# Altium footprint library Crystals.PcbLib: 22 footprints (part 1 of 2)
Each footprint in its own frame and in the unit in brackets; x right, y up, seen from the top. Pads: shape width x height; smd on the part's side, far side on the other; paste and mask are expansions set on the pad; w line width, h text height; cw(c..) or ccw(c..) is an arc to the next point about the centre after c.
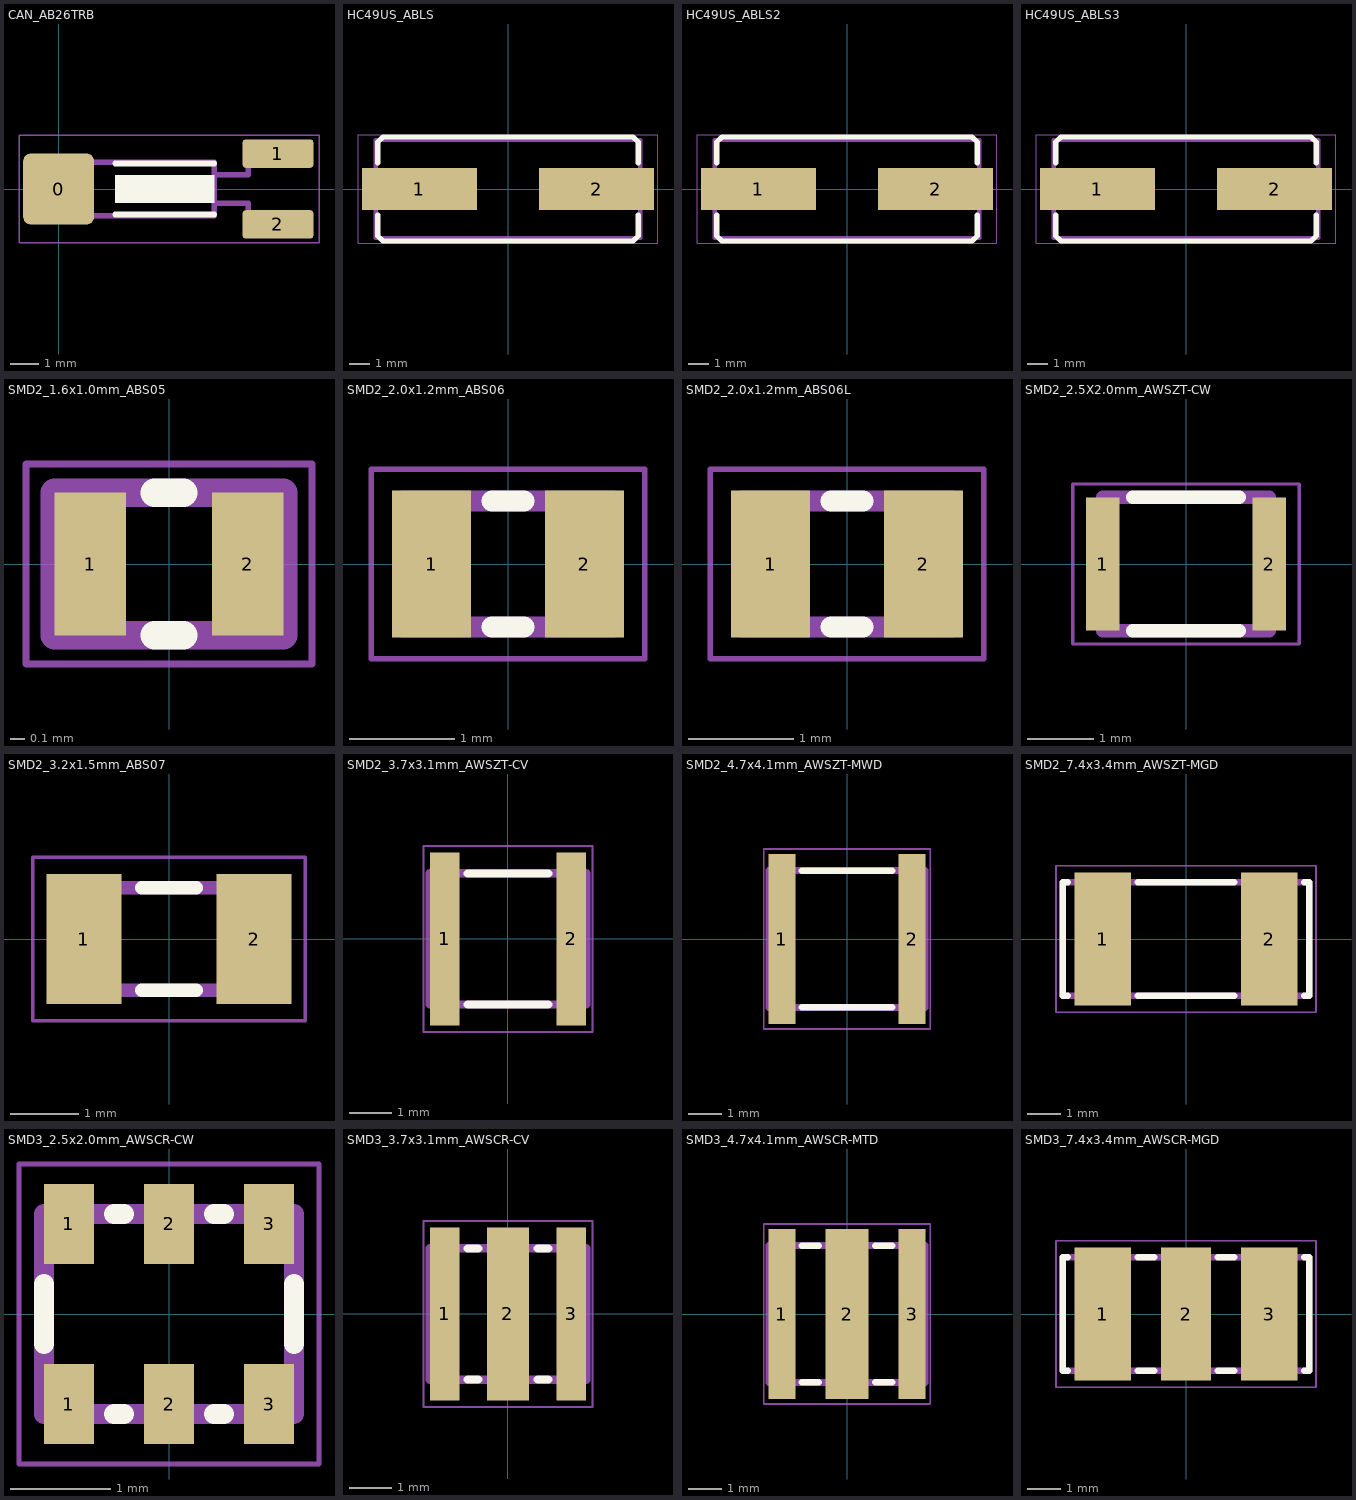
[diagram p0: the footprints below, top view; thin cyan lines are the x and y axes]

## CAN_AB26TRB [mm]
pads (3):
  rrect20% 2.5x2.5 smd: 0(0,0)
  rrect20% 2.5x1 smd: 1(7.75,1.25) 2(7.75,-1.25)
Top Overlay:
  rectangle: 2,-0.5 5.5,0.5
  lines w0.2: 2,-0.9 5.5,-0.9 ; 2,0.9 5.5,0.9
Mechanical 13:
  lines w0.2: 5.5,-0.5 6.7,-0.5 6.7,-1.2 8.3,-1.2 ; 5.5,0.5 6.7,0.5 6.7,1.2 8.3,1.2 ; -0.3,-0.95 -0.3,0.95 5.5,0.95 5.5,-0.95 -0.3,-0.95
Mechanical 15:
  lines w0.05: -1.4,-1.9 -1.4,1.9 9.2,1.9 9.2,-1.9 -1.4,-1.9
  text ".Designator" at -0.9,0 h0.5
3D body "AB26TRB.STEP": height 2.22, standoff 0, extent -0.4,-1.42 8.6,1.42

## HC49US_ABLS [mm]
pads (2):
  rect 5.5x2 smd: 1(-4.25,0) 2(4.25,0)
Top Overlay:
  lines w0.254: -6.25,-1.25 -6.25,-2.25 -6,-2.5 6,-2.5 6.25,-2.25 6.25,-1.25 ; -6.25,1.25 -6.25,2.25 -6,2.5 6,2.5 6.25,2.25 6.25,1.25
Mechanical 13:
  lines w0.2: -6.35,-2.35 -6.35,2.349 6.35,2.349 6.35,-2.35 -6.35,-2.35
Mechanical 15:
  lines w0.05: -7.2,-2.6 7.2,-2.6 7.2,2.6 -7.2,2.6 -7.2,-2.6
  text ".Designator" at -0.9,0 h0.5
3D body "ABLS.STEP": height 4.06, standoff -0.1, extent -6.35,-2.35 6.35,2.349

## HC49US_ABLS2 [mm]
pads (2):
  rect 5.5x2 smd: 1(-4.25,0) 2(4.25,0)
Top Overlay:
  lines w0.254: -6.25,-1.25 -6.25,-2.25 -6,-2.5 6,-2.5 6.25,-2.25 6.25,-1.25 ; -6.25,1.25 -6.25,2.25 -6,2.5 6,2.5 6.25,2.25 6.25,1.25
Mechanical 13:
  lines w0.2: -6.35,-2.35 -6.35,2.349 6.35,2.349 6.35,-2.35 -6.35,-2.35
Mechanical 15:
  lines w0.05: -7.2,-2.6 7.2,-2.6 7.2,2.6 -7.2,2.6 -7.2,-2.6
  text ".Designator" at -0.9,0 h0.5
3D body "ABLS2.STEP": height 3.16, standoff -0.1, extent -6.35,-2.35 6.35,2.349

## HC49US_ABLS3 [mm]
pads (2):
  rect 5.5x2 smd: 1(-4.25,0) 2(4.25,0)
Top Overlay:
  lines w0.254: -6.25,-1.25 -6.25,-2.25 -6,-2.5 6,-2.5 6.25,-2.25 6.25,-1.25 ; -6.25,1.25 -6.25,2.25 -6,2.5 6,2.5 6.25,2.25 6.25,1.25
Mechanical 13:
  lines w0.2: -6.35,-2.35 -6.35,2.349 6.35,2.349 6.35,-2.35 -6.35,-2.35
Mechanical 15:
  lines w0.05: -7.2,-2.6 -7.2,2.6 7.2,2.6 7.2,-2.6 -7.2,-2.6
  text ".Designator" at -0.9,0 h0.5
3D body "ABLS3.STEP": height 2.46, standoff -0.1, extent -6.35,-2.35 6.35,2.349

## SMD2_1.6x1.0mm_ABS05 [mm]
pads (2):
  rect 0.5x1 smd: 1(-0.55,0) 2(0.55,0)
Top Overlay:
  lines w0.2: -0.1,-0.5 0.1,-0.5 ; -0.1,0.5 0.1,0.5
Mechanical 13:
  lines w0.2: -0.8,-0.5 -0.8,0.5 0.8,0.5 0.8,-0.5 -0.8,-0.5
Mechanical 15:
  lines w0.05: -1,-0.7 -1,0.7 1,0.7 1,-0.7 -1,-0.7
  text ".Designator" at -0.9,0 h0.5
3D body "ABS05[1].STEP": height 0.5, standoff 0, extent -0.8,-0.5 0.8,0.5

## SMD2_2.0x1.2mm_ABS06 [mm]
pads (2):
  rect 0.75x1.4 smd: 1(-0.725,0) 2(0.725,0)
Top Overlay:
  lines w0.2: -0.15,-0.6 0.15,-0.6 ; -0.15,0.6 0.15,0.6
Mechanical 13:
  lines w0.2: -1.003,-0.6 -1,-0.6 ; -1,0.597 -1,-0.6 ; -1,0.6 1,0.6 1,-0.6 -1,-0.6 ; -0.975,-0.6 -1,-0.6
Mechanical 15:
  lines w0.05: -1.3,-0.9 -1.3,0.9 1.3,0.9 1.3,-0.9 -1.3,-0.9
  text ".Designator" at -0.9,0 h0.5
3D body "ABS06[1].STEP": height 0.61, standoff 0, extent -1.003,-0.597 1.003,0.597

## SMD2_2.0x1.2mm_ABS06L [mm]
pads (2):
  rect 0.75x1.4 smd: 1(-0.725,0) 2(0.725,0)
Top Overlay:
  lines w0.2: -0.15,-0.6 0.15,-0.6 ; -0.15,0.6 0.15,0.6
Mechanical 13:
  lines w0.2: -1.003,-0.6 -1,-0.6 ; -1,0.597 -1,-0.6 ; -1,0.6 1,0.6 1,-0.6 -1,-0.6 ; -0.975,-0.6 -1,-0.6
Mechanical 15:
  lines w0.05: -1.3,-0.9 -1.3,0.9 1.3,0.9 1.3,-0.9 -1.3,-0.9
  text ".Designator" at -0.9,0 h0.5
3D body "ABS06L[1].STEP": height 0.38, standoff 0, extent -1,-0.6 1,0.6

## SMD2_2.5X2.0mm_AWSZT-CW [mm]
pads (2):
  rect 0.5x2 smd: 1(-1.25,0) 2(1.25,0)
Top Overlay:
  lines w0.2: -0.8,-1 0.8,-1 ; -0.8,1 0.8,1
Mechanical 13:
  lines w0.2: -1.25,-1.003 1.25,-1.003 1.25,1.002 -1.25,1.002 -1.25,-1.003
Mechanical 15:
  lines w0.05: -1.7,-1.2 1.7,-1.2 1.7,1.2 -1.7,1.2 -1.7,-1.2
  text ".Designator" at -0.9,0 h0.5
3D body "AWSZT-CW[1].STEP": height 1.21, standoff 0, extent -1.25,-1.003 1.25,1.002

## SMD2_3.2x1.5mm_ABS07 [mm]
pads (2):
  rect 1.1x1.9 smd: 1(-1.25,0) 2(1.25,0)
Top Overlay:
  lines w0.2: -0.4,-0.75 0.4,-0.75 ; -0.4,0.75 0.4,0.75
Mechanical 13:
  lines w0.2: -1.6,-0.75 1.6,-0.75 1.6,0.75 -1.6,0.75 -1.6,-0.75
Mechanical 15:
  lines w0.05: -2,-1.2 2,-1.2 2,1.2 -2,1.2 -2,-1.2
  text ".Designator" at -0.9,0 h0.5
3D body "ABS07[1].STEP": height 0.89, standoff 0, extent -1.6,-0.749 1.6,0.749

## SMD2_3.7x3.1mm_AWSZT-CV [mm]
pads (2):
  rect 0.7x4.1 smd: 1(-1.5,0) 2(1.5,0)
Top Overlay:
  lines w0.2: -0.95,-1.55 0.95,-1.55 ; -0.95,1.55 0.95,1.55
Mechanical 13:
  lines w0.2: -1.85,-1.55 1.85,-1.55 1.85,1.555 -1.85,1.555 -1.85,-1.55
Mechanical 15:
  lines w0.05: -2,-2.2 2,-2.2 2,2.2 -2,2.2 -2,-2.2
  text ".Designator" at -0.9,0 h0.5
3D body "AWSZT-CV[1].STEP": height 1.01, standoff 0, extent -1.85,-1.555 1.85,1.555

## SMD2_4.7x4.1mm_AWSZT-MWD [mm]
pads (2):
  rect 0.8x5.1 smd: 1(-1.95,0) 2(1.95,0)
Top Overlay:
  lines w0.2: -1.35,-2.05 1.35,-2.05 ; -1.35,2.05 1.35,2.05
Mechanical 13:
  lines w0.2: -2.35,-2.055 2.35,-2.055 2.35,2.055 -2.35,2.055 -2.35,-2.055
Mechanical 15:
  lines w0.05: -2.5,-2.7 -2.5,2.7 2.5,2.7 2.5,-2.7 -2.5,-2.7
  text ".Designator" at -0.9,0 h0.5
3D body "AWSZT-MWD[1].STEP": height 1.51, standoff 0.3, extent -2.35,-2.055 2.35,2.055

## SMD2_7.4x3.4mm_AWSZT-MGD [mm]
pads (2):
  rect 1.7x4 smd: 1(-2.5,0) 2(2.5,0)
Top Overlay:
  lines w0.2: -3.55,-1.7 -3.7,-1.7 -3.7,1.7 -3.55,1.7 ; -1.45,-1.7 1.45,-1.7 ; -1.45,1.7 1.45,1.7 ; 3.55,-1.7 3.7,-1.7 3.7,1.7 3.55,1.7
Mechanical 13:
  lines w0.2: 3.7,-1.7 -3.7,-1.7 -3.7,1.7 3.7,1.7 ; 3.7,-1.7 3.7,1.7 ; 3.7,-1.7 3.7,1.7
Mechanical 15:
  lines w0.05: -3.9,-2.2 -3.9,2.2 3.9,2.2 3.9,-2.2 -3.9,-2.2
  text ".Designator" at -0.9,0 h0.5
3D body "AWSZT-MGD[1].STEP": height 1.81, standoff 0, extent -3.7,-1.705 3.7,1.705

## SMD3_2.5x2.0mm_AWSCR-CW [mm]
pads (6):
  rect 0.5x0.8 smd: 1(-1,-0.9) 1(-1,0.9) 2(0,-0.9) 2(0,0.9) 3(1,-0.9) 3(1,0.9)
Top Overlay:
  lines w0.2: -1.25,-0.3 -1.25,0.3 ; -0.55,-1 -0.45,-1 ; -0.55,1 -0.45,1 ; 0.45,-1 0.55,-1 ; 0.45,1 0.55,1 ; 1.25,-0.3 1.25,0.3
Mechanical 13:
  lines w0.2: -1.25,-1 1.25,-1 ; -1.25,-1 -1.25,1 1.25,1 1.25,-1 ; -1.25,-1 1.25,-1
Mechanical 15:
  lines w0.05: -1.5,-1.5 -1.5,1.5 1.5,1.5 1.5,-1.5 -1.5,-1.5
  text ".Designator" at -0.9,0 h0.5
3D body "AWSCR-CW[1].STEP": height 1.21, standoff 0, extent -1.25,-1.002 1.25,1.002

## SMD3_3.7x3.1mm_AWSCR-CV [mm]
pads (3):
  rect 0.7x4.1 smd: 1(-1.5,0) 3(1.5,0)
  rect 1x4.1 smd: 2(0,0)
Top Overlay:
  lines w0.2: -0.95,-1.55 -0.7,-1.55 ; -0.95,1.55 -0.7,1.55 ; 0.7,-1.55 0.95,-1.55 ; 0.7,1.55 0.95,1.55
Mechanical 13:
  lines w0.2: -1.85,-1.555 1.85,-1.555 1.85,1.555 -1.85,1.555 -1.85,-1.555
Mechanical 15:
  lines w0.05: -2,-2.2 -2,2.2 2,2.2 2,-2.2 -2,-2.2
  text ".Designator" at -0.9,0 h0.5
3D body "AWSCR-CV[1].STEP": height 1.21, standoff 0, extent -1.85,-1.555 1.85,1.555

## SMD3_4.7x4.1mm_AWSCR-MTD [mm]
pads (3):
  rect 0.8x5.1 smd: 1(-1.95,0) 3(1.95,0)
  rect 1.3x5.1 smd: 2(0,0)
Top Overlay:
  lines w0.2: -1.35,-2.05 -0.85,-2.05 ; -1.35,2.05 -0.85,2.05 ; 0.85,-2.05 1.35,-2.05 ; 0.85,2.05 1.35,2.05
Mechanical 13:
  lines w0.2: -2.35,-2.055 -2.35,2.055 2.35,2.055 2.35,-2.055 -2.35,-2.055
Mechanical 15:
  lines w0.05: -2.5,-2.7 2.5,-2.7 2.5,2.7 -2.5,2.7 -2.5,-2.7
  text ".Designator" at -0.9,0 h0.5
3D body "AWSCR-MTD[1].STEP": height 1.66, standoff 0.15, extent -2.35,-2.055 2.35,2.055

## SMD3_7.4x3.4mm_AWSCR-MGD [mm]
pads (3):
  rect 1.7x4 smd: 1(-2.5,0) 3(2.5,0)
  rect 1.5x4 smd: 2(0,0)
Top Overlay:
  lines w0.2: -3.55,-1.7 -3.7,-1.7 -3.7,1.7 -3.55,1.7 ; -1.45,-1.7 -0.95,-1.7 ; -1.45,1.7 -0.95,1.7 ; 0.95,-1.7 1.45,-1.7 ; 0.95,1.7 1.45,1.7 ; 3.55,-1.7 3.7,-1.7 3.7,1.7 3.55,1.7
Mechanical 13:
  lines w0.2: 3.7,-1.7 -3.7,-1.7 -3.7,1.7 3.7,1.7 ; 3.7,-1.7 3.7,1.7 ; 3.7,-1.7 3.7,1.7
Mechanical 15:
  lines w0.05: -3.9,-2.2 -3.9,2.2 3.9,2.2 3.9,-2.2 -3.9,-2.2
  text ".Designator" at -0.9,0 h0.5
3D body "AWSCR-MGD[1].STEP": height 1.81, standoff 0, extent -3.7,-1.705 3.7,1.705